# EAGLE library part 610028243021 (library Wurth_Elektronik_Electromechanic_Board_to_Board_Connectors_rev16a)
WR-PHD 2.54mm SMT Dual Socket Header Bottom Entry, 28 Pins =>Code : Con_BTB_SHD_2.54_2_610028243021 <http://katalog.we-online.de/media/images/eican/Con_BTB_SHD_2.54_2_6100xx243021_pf2.jpg> Details see: http://katalog.we-online.de/en/em/610_0xx_243_021 Created 2014-05-30, Karrer Zheng 2014 (C) Würth Elektronik
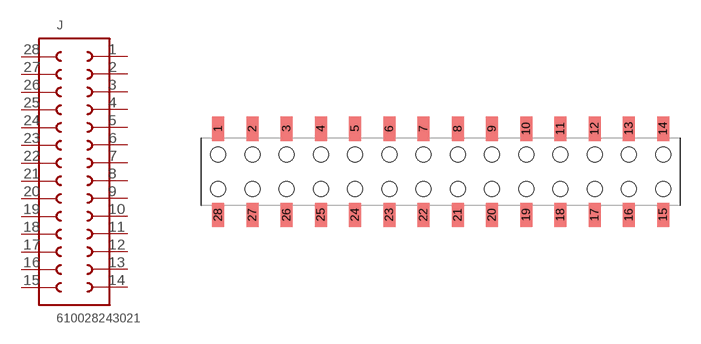
[diagram p193: symbol with the pads of 610028243021; footprint 610028243021]

Designator prefix J

## 610028243021  [610028243021]
1  1  pas
2  2  pas
3  3  pas
4  4  pas
5  5  pas
6  6  pas
7  7  pas
8  8  pas
9  9  pas
10  10  pas
11  11  pas
12  12  pas
13  13  pas
14  14  pas
15  15  pas
16  16  pas
17  17  pas
18  18  pas
19  19  pas
20  20  pas
21  21  pas
22  22  pas
23  23  pas
24  24  pas
25  25  pas
26  26  pas
27  27  pas
28  28  pas

## Footprint 610028243021 (pad centres in mm)
WR-PHD 2.54mm SMT Dual Socket Header Bottom Entry, 28 Pins
smd 0.9 x 1.8: 1 -16.51,3.2; 2 -13.97,3.2; 3 -11.43,3.2; 4 -8.89,3.2; 5 -6.35,3.2; 6 -3.81,3.2; 7 -1.27,3.2; 8 1.27,3.2; 9 3.81,3.2; 10 6.35,3.2; 11 8.89,3.2; 12 11.43,3.2; 13 13.97,3.2; 14 16.51,3.2; 15 16.51,-3.2; 16 13.97,-3.2; 17 11.43,-3.2; 18 8.89,-3.2; 19 6.35,-3.2; 20 3.81,-3.2; 21 1.27,-3.2; 22 -1.27,-3.2; 23 -3.81,-3.2; 24 -6.35,-3.2; 25 -8.89,-3.2; 26 -11.43,-3.2; 27 -13.97,-3.2; 28 -16.51,-3.2
hole 1.1 at -16.51,1.27
hole 1.1 at -13.97,1.27
hole 1.1 at -13.97,-1.27
hole 1.1 at -16.51,-1.27
hole 1.1 at -11.43,1.27
hole 1.1 at -11.43,-1.27
hole 1.1 at -8.89,1.27
hole 1.1 at -8.89,-1.27
hole 1.1 at -6.35,1.27
hole 1.1 at -6.35,-1.27
hole 1.1 at -3.81,1.27
hole 1.1 at -3.81,-1.27
hole 1.1 at -1.27,1.27
hole 1.1 at -1.27,-1.27
hole 1.1 at 1.27,1.27
hole 1.1 at 1.27,-1.27
hole 1.1 at 3.81,1.27
hole 1.1 at 3.81,-1.27
hole 1.1 at 6.35,1.27
hole 1.1 at 6.35,-1.27
hole 1.1 at 8.89,1.27
hole 1.1 at 8.89,-1.27
hole 1.1 at 11.43,1.27
hole 1.1 at 11.43,-1.27
hole 1.1 at 13.97,1.27
hole 1.1 at 13.97,-1.27
hole 1.1 at 16.51,1.27
hole 1.1 at 16.51,-1.27